# Altium footprint library ABRACON ARJC02-111008B.PCBLIB: 1 footprints
Each footprint in its own frame and in the unit in brackets; x right, y up, seen from the top. Pads: shape width x height; smd on the part's side, far side on the other; paste and mask are expansions set on the pad; w line width, h text height; cw(c..) or ccw(c..) is an arc to the next point about the centre after c.
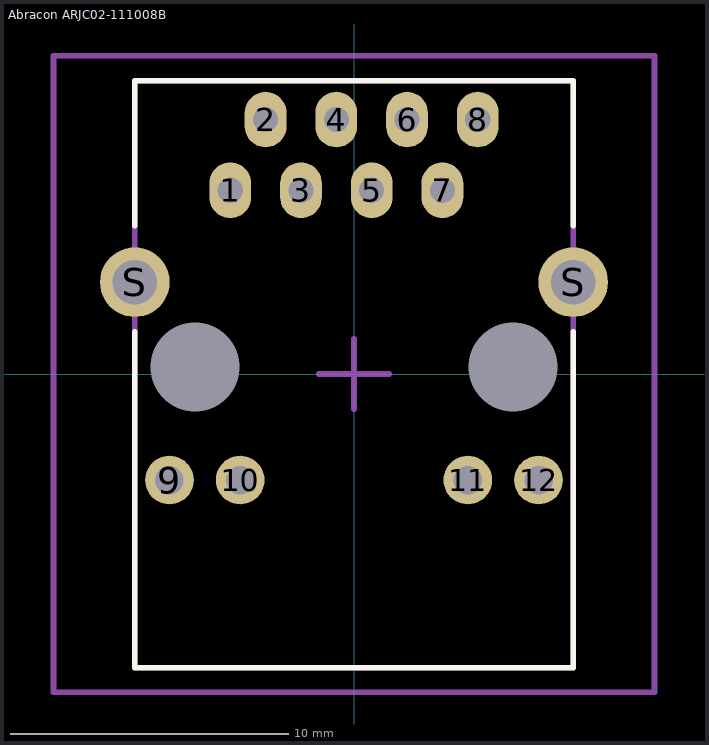
[diagram p0: the footprint, top view; thin cyan lines are the x and y axes]

## Abracon ARJC02-111008B [mm]
height 13.55
pads (16):
  oval 1.5x2 hole 0.9: 1(-4.445,6.6) 2(-3.175,9.14) 3(-1.905,6.6) 4(-0.635,9.14) 5(0.635,6.6) 6(1.905,9.14) 7(3.175,6.6) 8(4.445,9.14)
  round 1.75 hole 1.02: 9(-6.63,-3.81) 10(-4.09,-3.81) 11(4.09,-3.81) 12(6.63,-3.81)
  round 0 hole 3.2 unplated: M(-5.715,0.25) M(5.715,0.25)
  round 2.5 hole 1.6: S(-7.875,3.3) S(7.875,3.3)
Top Overlay:
  lines w0.2: -7.874,1.52 -7.874,-10.545 0,-10.545 7.874,-10.545 7.874,1.52 ; -7.874,5.33 -7.874,10.537 0,10.537 7.874,10.537 7.874,5.33
Mechanical 1:
  lines w0.2: -7.874,-10.545 7.874,-10.545 7.874,10.537 -7.874,10.537 -7.874,-10.545
Mechanical 15:
  lines w0.2: -1.27,0 1.27,0 ; 0,-1.27 0,1.27 ; -10.795,-11.43 10.795,-11.43 10.795,11.43 -10.795,11.43 -10.795,-11.43
3D body "Abracon ARJC02-111008B.STEP": height 16.07, standoff -3.7, extent -10.336,-10.555 10.336,10.546